# EAGLE library part HD-BXM322RD (library LED displeje)
LED displej 6 mist
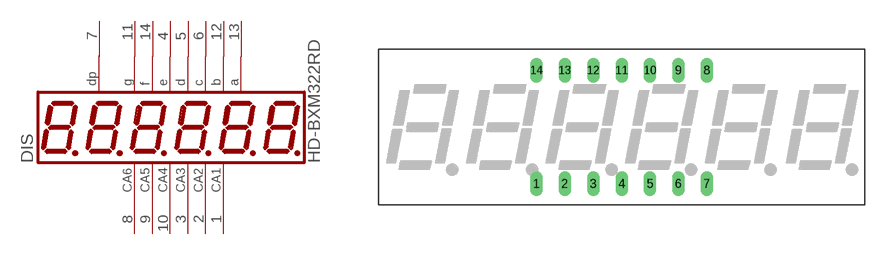
[diagram p7: symbol with the pads of HD-BVM; footprint HD-BVM]

Designator prefix DIS

## HD-BXM322RD  [HD-BVM]
1  CA1  pas
2  CA2  pas
3  CA3  pas
4  E  pas
5  D  pas
6  C  pas
7  DP  pas
8  CA6  pas
9  CA5  pas
10  CA4  pas
11  G  pas
12  B  pas
13  A  pas
14  F  pas

## Footprint HD-BVM (pad centres in mm)
drill 0.61 long: 1 -7.62,-5.08; 2 -5.08,-5.08; 3 -2.54,-5.08; 4 0,-5.08; 5 2.54,-5.08; 6 5.08,-5.08; 7 7.62,-5.08; 8 7.62,5.08; 9 5.08,5.08; 10 2.54,5.08; 11 0,5.08; 12 -2.54,5.08; 13 -5.08,5.08; 14 -7.62,5.08